# EAGLE library part LTC2943 (library DubSat1 Components)
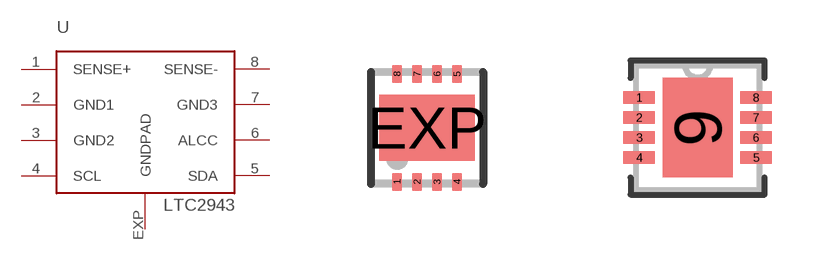
[diagram p1: symbol with the pads of DFN8(3X3)LT; footprints DFN8(3X3)LT, DFN-8_DD]

Designator prefix -

## LTC2943  [DFN8(3X3)LT]
1  SENSE+
2  GND1
3  GND2
4  SCL
5  SDA
6  ALCC
7  GND3
8  SENSE-
EXP  GNDPAD

## LTC29433D  [DFN8(3X3)LT]
Pads as for DFN8(3X3)LT

## LTC2943MANUFACTURER_FOOTPRINT  [DFN-8_DD]
1  SENSE+
2  GND1
3  GND2
4  SCL
5  SDA
6  ALCC
7  GND3
8  SENSE-
9  GNDPAD

## Footprint DFN8(3X3)LT (pad centres in mm)
smd 0.25 x 0.45: 1 -2.02,-0.08; 2 -1.52,-0.08; 3 -1.02,-0.08; 4 -0.52,-0.08; 5 -0.52,2.62; 6 -1.02,2.62; 7 -1.52,2.62; 8 -2.02,2.62
smd 2.38 x 1.65: EXP -1.27,1.27

## Footprint DFN-8_DD (pad centres in mm)
smd 0.787 x 0.305: 1 -1.46,0.75; 2 -1.46,0.25; 3 -1.46,-0.25; 4 -1.46,-0.75; 5 1.46,-0.75; 6 1.46,-0.25; 7 1.46,0.25; 8 1.46,0.75
smd 1.753 x 2.489: 9 0,0